# Altium integrated library THUR_Integrated_Library_V1.0.IntLib: 23 symbols
Pins are listed as number, name and electrical type; pins without a type are passive.

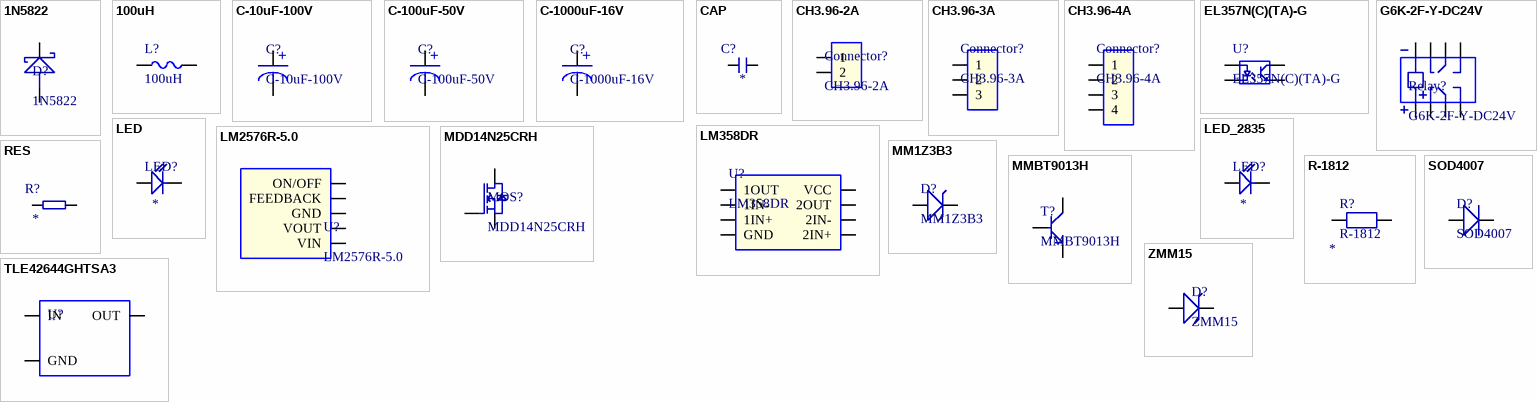
[diagram p0: symbols 1N5822 to ZMM15]

## 1N5822
designator D?
Schottky diodes
footprint DO-201AD
pins: 1, 2

## 100uH
designator L?
Inductance
footprint SMRH127
pins: 1, 2

## C-10uF-100V
designator C?
Electrolytic capacitor
footprint RADIAL,6.3X11MM
pins: 1, 2
text: +

## C-100uF-50V
designator C?
Electrolytic capacitor
footprint Radial,8X12mm
pins: 1, 2
text: +

## C-1000uF-16V
designator C?
Electrolytic capacitor
footprint Radial,10x16mm
pins: 1, 2
text: +

## CAP
designator C?, comment Cap-0805  (value not drawn)
Capacitance-0805; Value: *
footprint 0805_C
pins: 1, 2

## CH3.96-2A
designator Connector?
Connector P=3.96mm
footprint CH3.96-2A
pins: 1, 2

## CH3.96-3A
designator Connector?
Connector P=3.96mm
footprint CH3.96-3A
pins: 1, 2, 3

## CH3.96-4A
designator Connector?
Connector P=3.96mm
footprint CH3.96-4A
pins: 1, 2, 3, 4

## EL357N(C)(TA)-G
designator U?
Optocoupler
footprint SOP-4_P2.54
pins: 1, 2, 3, 4

## G6K-2F-Y-DC24V
designator Relay?
OMRON RELAY DC24V
footprint G6K-2F-Y-DC24V
pins: 1, 2, 3, 4, 5, 6, 7, 8

## LED
designator LED?, comment LED-0805  (value not drawn)
Color: *
footprint 0805_LED_S3
pins: A 1, K 2

## LED_2835
designator LED?, comment LED-2835  (value not drawn)
Color: *
footprint LED-2835
pins: A 1, K 2

## LM358DR
designator U?
LEM358DR-Op Amp
footprint SOIC-8_150mil
pins: 1 1OUT, 2 1IN-, 3 1IN+, 4 GND, 5 2IN+, 6 2IN-, 7 2OUT, 8 VCC

## LM2576R-5.0
designator U?
DC/DC 24V/5V
footprint LC-TO-263-5
pins: 1 VIN, 2 VOUT, 3 GND, 4 FEEDBACK, 5 ON/OFF

## MDD14N25CRH
designator MOS?
N-Channel  MOSFET
footprint TO-252-2
pins: D, G, S

## MM1Z3B3
designator D?
Zener diode 3.3V
footprint SOD-123
pins: 1, 2

## MMBT9013H
designator T?
Transisitor
footprint SOT-23(SOT-23-3)
pins: 1 Base, 2 Emitter, 3 Collector

## R-1812
designator R?
Resistance-1812; value: *
footprint 1812
pins: 1, 2

## RES
designator R?, comment Res-0805  (value not drawn)
Resistance-0805; Value: *
footprint 0805_R
pins: 1, 2

## SOD4007
designator D?
General Purpose Diode
footprint SOD-123F
pins: 1, 2

## TLE42644GHTSA3
designator U?  (value not drawn)
Low dropout linear regulator 5V
footprint SOT-223
pins: 1 IN, 2 GND, 3 OUT

## ZMM15
designator D?
Zener diode 15V
footprint LL-34
pins: 1, 2